# EAGLE library part 74HC93 (library IC_Logic)
4-Bit Binary Ripple Counter Reference Datasheet <https://www.ti.com/lit/ds/symlink/cd74hct93.pdf?ts=1637568609083&ref_url=https%253A%252F%252Fwww.google.com%252F>
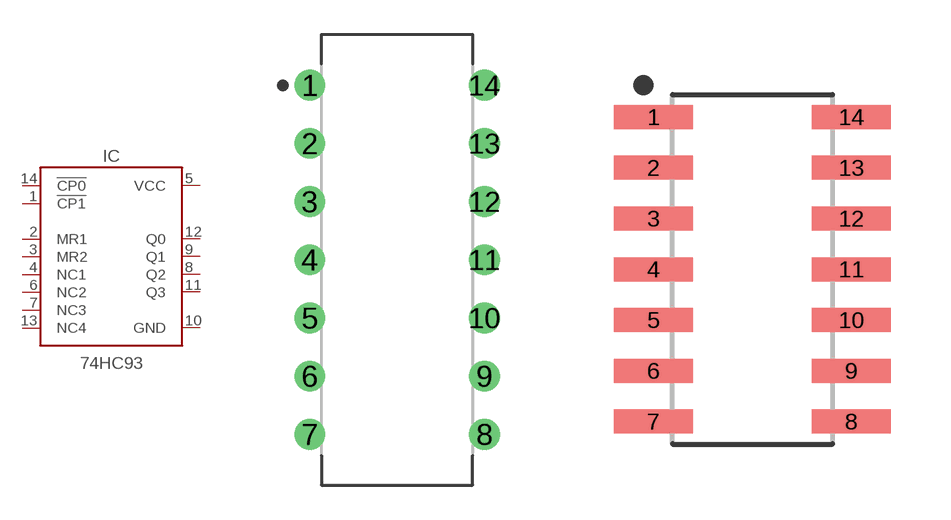
[diagram p1: symbol with the pads of DIP762W53P254L1969H508Q14B; footprints DIP762W53P254L1969H508Q14B, SOIC127P600X175-14N]

Designator prefix IC

## 74HC93_PDIP (CATEGORY: IC_Logic; DESCRIPTION: 4-Bit Binary Ripple Counter; MANUFACTURER: Generic; MPN: Generic; SUB-CATEGORY: Ripple Counter; TYPE: 4-Bit; VALUE: 74HC93)  [DIP762W53P254L1969H508Q14B]
1  !CP1  in
2  MR1  in
3  MR2  in
4  NC1  out
5  VCC
6  NC2  out
7  NC3  out
8  Q2  out
9  Q1  out
10  GND
11  Q3  out
12  Q0  out
13  NC4  out
14  !CP0  in

## 74HC93_SOIC (CATEGORY: IC_Logic; DESCRIPTION: 4-Bit Binary Ripple Counter; MANUFACTURER: Generic; MPN: Generic; SUB-CATEGORY: Ripple Counter; TYPE: 4-Bit; VALUE: 74HC93)  [SOIC127P600X175-14N]
Pads as for DIP762W53P254L1969H508Q14B

## Footprint DIP762W53P254L1969H508Q14B (pad centres in mm)
14-DIP, 2.54 mm (0.10 in) pitch, 7.62 mm (0.30 in) span, 19.69 X 6.35 X 5.08 mm body 14-pin DIP package with 2.54 mm (0.10 in) pitch, 7.62 mm (0.30 in) span with body size 19.69 X 6.35 X 5.08 mm
drill 0.743 pad 1.343: 1 -3.81,7.62; 2 -3.81,5.08; 3 -3.81,2.54; 4 -3.81,0; 5 -3.81,-2.54; 6 -3.81,-5.08; 7 -3.81,-7.62; 8 3.81,-7.62; 9 3.81,-5.08; 10 3.81,-2.54; 11 3.81,0; 12 3.81,2.54; 13 3.81,5.08; 14 3.81,7.62

## Footprint SOIC127P600X175-14N (pad centres in mm)
14-SOIC, 1.27 mm pitch, 6.00 mm span, 8.65 X 3.90 X 1.75 mm body 14-pin SOIC package with 1.27 mm pitch, 6.00 mm span with body size 8.65 X 3.90 X 1.75 mm
smd 1.968 x 0.599: 1 -2.473,3.81; 2 -2.473,2.54; 3 -2.473,1.27; 4 -2.473,0; 5 -2.473,-1.27; 6 -2.473,-2.54; 7 -2.473,-3.81; 8 2.473,-3.81; 9 2.473,-2.54; 10 2.473,-1.27; 11 2.473,0; 12 2.473,1.27; 13 2.473,2.54; 14 2.473,3.81